# Altium footprint library SpaceBee.PcbLib: 36 footprints (part 1 of 3)
Each footprint in its own frame and in the unit in brackets; x right, y up, seen from the top. Pads: shape width x height; smd on the part's side, far side on the other; paste and mask are expansions set on the pad; w line width, h text height; cw(c..) or ccw(c..) is an arc to the next point about the centre after c.
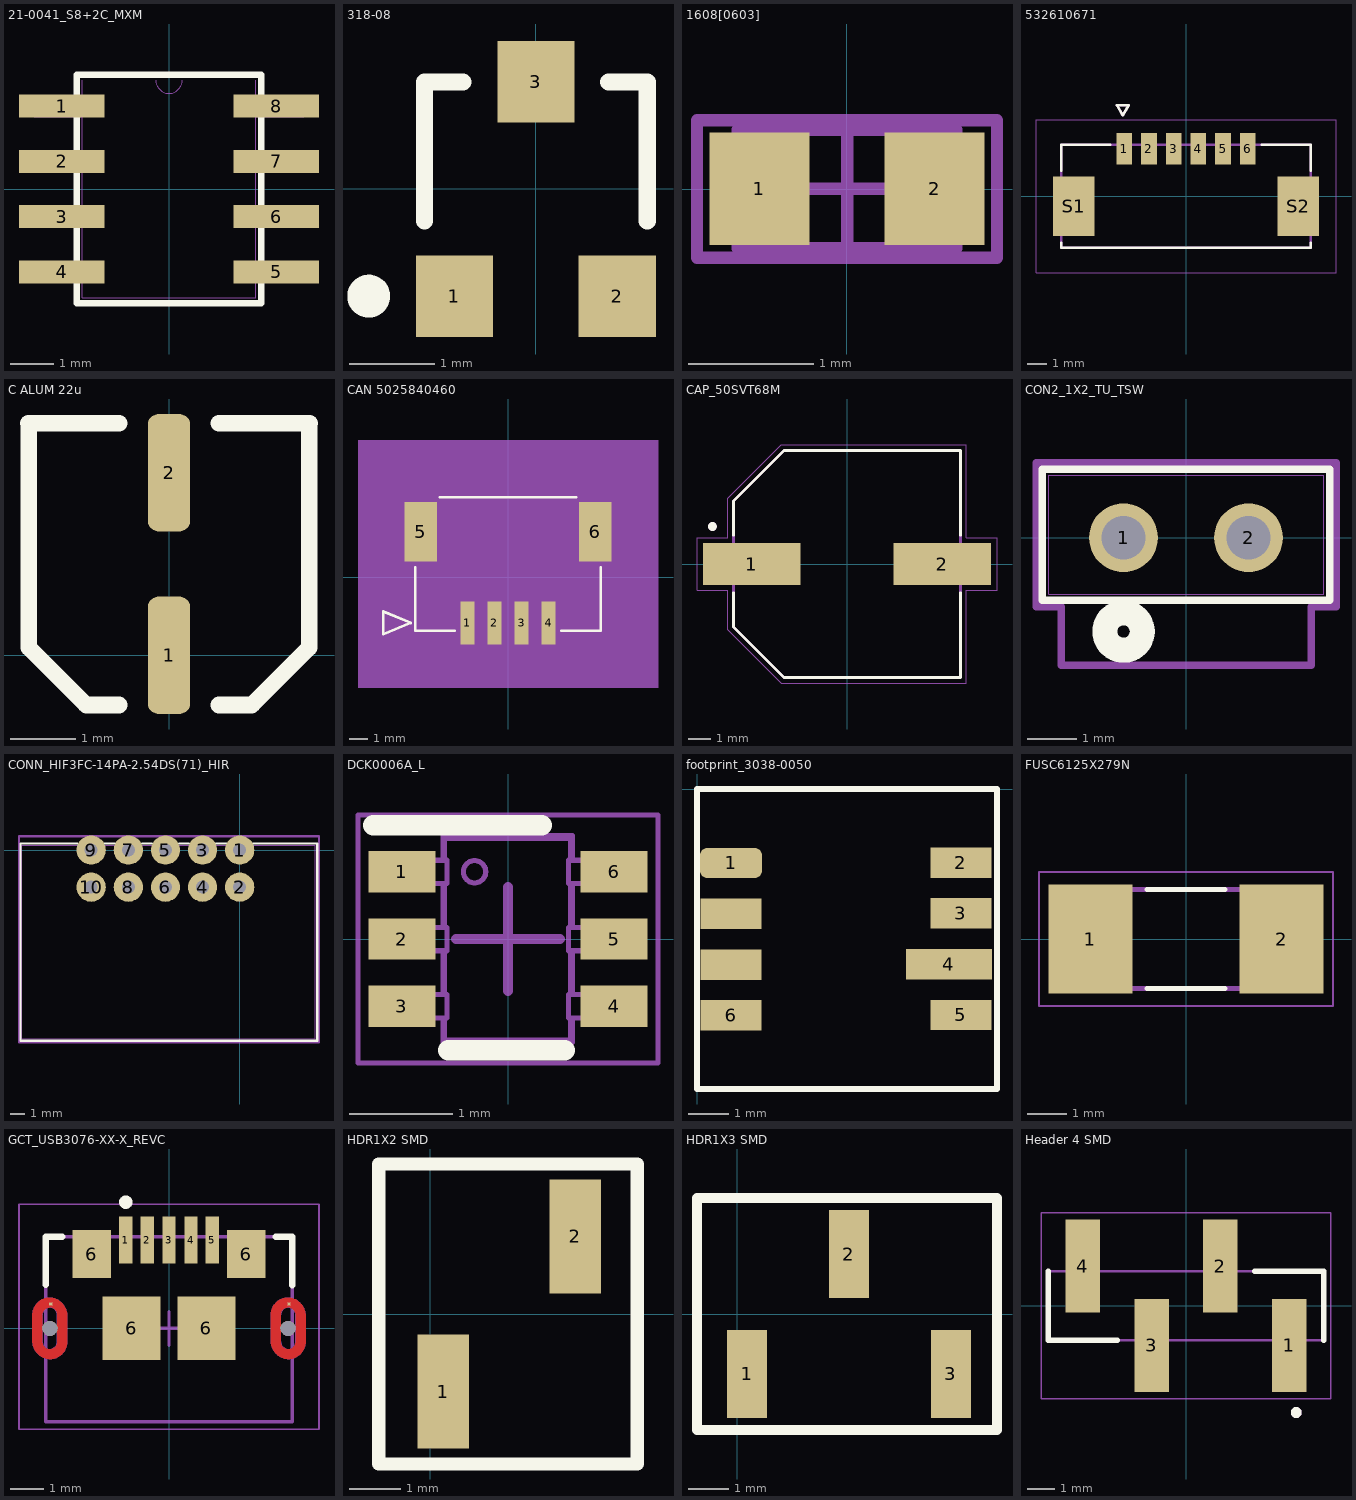
[diagram p0: the footprints below, top view; thin cyan lines are the x and y axes]

## 21-0041_S8+2C_MXM [mm]
pads (8):
  rect 1.97x0.533 smd paste+0 mask+0: 1(-2.464,1.905) 2(-2.464,0.635) 3(-2.464,-0.635) 4(-2.464,-1.905) 5(2.464,-1.905) 6(2.464,-0.635) 7(2.464,0.635) 8(2.464,1.905)
Top Overlay:
  lines w0.152: -2.121,-2.629 2.121,-2.629 2.121,2.629 -2.121,2.629 -2.121,-2.629
Mechanical 13:
  lines w0: -0.305,2.502 ccw(c0,2.502) 0.305,2.502
  lines w0.025: -1.994,2.502 -1.994,-2.502 1.994,-2.502 1.994,2.502 ; -3.099,-2.146 -1.994,-2.146 -1.994,-1.664 -3.099,-1.664 -3.099,-2.146 ; -3.099,-0.876 -1.994,-0.876 -1.994,-0.394 -3.099,-0.394 -3.099,-0.876 ; -3.099,0.394 -1.994,0.394 -1.994,0.876 -3.099,0.876 -3.099,0.394 ; -3.099,1.664 -1.994,1.664 -1.994,2.146 -3.099,2.146 -3.099,1.664 ; 1.994,-2.146 3.099,-2.146 3.099,-1.664 1.994,-1.664 1.994,-2.146 ; 1.994,-0.876 3.099,-0.876 3.099,-0.394 1.994,-0.394 1.994,-0.876 ; 1.994,0.394 3.099,0.394 3.099,0.876 1.994,0.876 1.994,0.394 ; 1.994,1.664 3.099,1.664 3.099,2.146 1.994,2.146 1.994,1.664
3D body "21-0041_S8+2C_MXM.step": height 1.76, standoff 0, extent -3.099,-2.502 3.099,2.502
3D body: height 0.25, standoff 0, extent 0,0 0.254,0.254

## 318-08 [mm] "SOT-23; 3 Leads; Body 3.0 x 2.6 mm, inc. leads (LxW max)"
height 1.11
pads (3):
  rect 0.9x0.95 smd: 1(-0.95,-1.25) 2(0.95,-1.25) 3(0,1.25)
Top Overlay:
  circle w0.25: c-1.95,-1.25 r0.125
  lines w0.2: -1.3,-0.375 -1.3,1.25 -0.85,1.25 ; 0.85,1.25 1.3,1.25 1.3,-0.375
3D body "User Library-SOT23-9.STEP": height 1.1, standoff 0, extent -1.428,-1.121 1.472,1.279

## 1608[0603] [mm]
pads (2):
  rect 0.8x0.9 smd: 1(-0.7,0) 2(0.7,0)
Mechanical 13:
  lines w0.1: -0.875,-0.475 -0.875,0.475 0.875,0.475 0.875,-0.475 -0.875,-0.475
Mechanical 15:
  lines w0.1: -0.475,0 0.475,0 ; 0,-0.475 0,0.475 ; -1.2,-0.55 -1.2,0.55 1.2,0.55 1.2,-0.55 -1.2,-0.55
3D body: height 1.3, standoff 0, extent -0.875,-0.475 0.875,0.475

## 532610671 [mm]
pads (8):
  rect 0.8x1.6 smd mask+0: 1(-3.125,2.4) 2(-1.875,2.4) 3(-0.625,2.4) 4(0.625,2.4) 5(1.875,2.4) 6(3.125,2.4)
  rect 2.1x3 smd mask+0: S1(-5.675,-0.5) S2(5.675,-0.5)
Top Overlay:
  lines w0.127: -6.325,-2.35 -6.325,-2.6 6.325,-2.6 6.325,-2.35 ; -6.325,1.3 -6.325,2.6 -3.845,2.6 ; 3.845,2.6 6.325,2.6 6.325,1.3 ; -3.5,4.605 -3.2,4.105 -2.9,4.605 -3.5,4.605
Top Solder:
  region: 3.601,1.524 2.649,1.524 2.649,3.276 3.601,3.276
  region: 2.351,1.524 1.399,1.524 1.399,3.276 2.351,3.276
  region: 1.101,1.524 0.149,1.524 0.149,3.276 1.101,3.276
  region: -0.149,1.524 -1.101,1.524 -1.101,3.276 -0.149,3.276
  region: -1.399,1.524 -2.351,1.524 -2.351,3.276 -1.399,3.276
  region: -4.549,-2.076 -6.801,-2.076 -6.801,1.076 -4.549,1.076
  region: 6.801,-2.076 4.549,-2.076 4.549,1.076 6.801,1.076
  region: -2.649,1.524 -3.601,1.524 -3.601,3.276 -2.649,3.276
Mechanical 13:
  lines w0.127: -6.325,-2.6 -6.325,2.6 6.325,2.6 6.325,-2.6 -6.325,-2.6 ; -3.5,4.605 -3.2,4.105 -2.9,4.605 -3.5,4.605
Mechanical 15:
  lines w0.05: -7.595,-3.87 -7.595,3.87 7.595,3.87 7.595,-3.87 -7.595,-3.87
3D body "step_temp.STEP": height 3.38, standoff -0.02, extent -6.325,-2.626 6.325,2.574

## C ALUM 22u [mm] "C22uF aluminum electrolitic 16V boiture B"
pads (2):
  rrect50% 0.65x1.8 smd: 1(0,0) 2(0,2.8)
Top Overlay:
  lines w0.254: -2.159,3.556 -0.762,3.556 ; -2.15,3.55 -2.15,0.118 -1.282,-0.75 ; -1.27,-0.762 -0.762,-0.762 ; 0.762,-0.762 1.27,-0.762 ; 0.762,3.556 2.159,3.556 ; 1.282,-0.75 2.15,0.118 2.15,3.55
3D body "User Library-CEL4D43S54H.STEP": height 5.4, standoff 0, extent -2.15,-0.909 2.15,3.691

## CAN 5025840460 [mm]
pads (6):
  rect 0.8x2.4 smd paste+0 mask+0.076: 1(-2.25,-2.525) 2(-0.75,-2.525) 3(0.75,-2.525) 4(2.25,-2.525)
  rect 1.8x3.3 smd paste+0 mask+0.076: 5(-4.85,2.525) 6(4.85,2.525)
Top Overlay:
  lines w0.152: -5.15,0.555 -5.15,-2.955 -2.97,-2.955 ; -3.778,4.445 3.778,4.445 ; 2.97,-2.955 5.15,-2.955 5.15,0.555 ; -6.928,-3.16 -6.928,-1.89 -5.404,-2.525 -6.928,-3.16
Mechanical 5:
  region: -8.325,7.62 8.325,7.62 8.325,-6.13 -8.325,-6.13
Mechanical 13:
  lines w0.127: -6.928,-3.16 -6.928,-1.89 -5.404,-2.525 -6.928,-3.16 ; -5.15,-2.955 5.15,-2.955 5.15,4.445 -5.15,4.445 -5.15,-2.955
Mechanical 15:
  region: 6.42,5.715 -6.42,5.715 -6.42,-4.225 6.42,-4.225
  lines w0.127: -6.42,-4.225 -6.42,5.715 6.42,5.715 6.42,-4.225 -6.42,-4.225
3D body: height 0.25, standoff 0, extent -2.25,-2.525 -1.996,-2.271
3D body "5025840460.stp": height 7.3, standoff 0, extent -5.114,-3.134 5.186,4.496

## CAP_50SVT68M [mm]
pads (2):
  rect 4.4x1.9 smd: 1(-4.318,0) 2(4.318,0)
Top Overlay:
  circle w0.2: c-6.1,1.7 r0.1
  lines w0.127: -5.15,-1.3 -5.15,-2.85 -2.85,-5.15 5.15,-5.15 5.15,-1.3 ; -5.15,1.3 -5.15,2.85 -2.85,5.15 5.15,5.15 5.15,1.3
Mechanical 13:
  circle w0.2: c-6.1,1.7 r0.1
  lines w0.127: -5.15,-2.85 -5.15,2.85 -2.85,5.15 5.15,5.15 5.15,-5.15 -2.85,-5.15 -5.15,-2.85
Mechanical 15:
  lines w0.05: -6.8,-1.2 -6.8,1.2 -5.4,1.2 -5.4,2.975 -2.975,5.4 5.4,5.4 5.4,1.2 6.8,1.2 6.8,-1.2 5.4,-1.2 5.4,-5.4 -2.975,-5.4 -5.4,-2.975 -5.4,-1.2 -6.8,-1.2
3D body "50SVT68M.STEP": height 12.57, standoff -0.03, extent -5.373,-5.023 5.627,5.277

## CON2_1X2_TU_TSW [mil]
pads (2):
  round 55 hole 35 mask+0: 1(-50,0) 2(50,0)
Top Overlay:
  circle w20: c-50,-75 r15
  lines w6: -115,-50 -115,55 115,55 115,-50 -115,-50
Bottom Overlay:
  circle w20: c-50,-75 r15
Mechanical 13:
  circle w0: c-50,0 r10
  lines w1: -110,-45 -110,50 110,50 110,-45 -110,-45
Mechanical 15:
  lines w6: -120,-55 -100,-55 -100,-102 100,-102 100,-55 120,-55 120,60 100,60 -100,60 -120,60 -120,-55
3D body "CON2_1X2_TU_TSW.step": height 500, standoff 0, extent -100,-50 100,50

## CONN_HIF3FC-14PA-2.54DS(71)_HIR [mm]
pads (10):
  round 2 hole 0.889 mask+0: 1(0,0) 2(0,-2.54) 3(-2.54,0) 4(-2.54,-2.54) 5(-5.08,0) 6(-5.08,-2.54) 7(-7.62,0) 8(-7.62,-2.54) 9(-10.16,0) 10(-10.16,-2.54)
Top Overlay:
  lines w0.152: -11.1,0.447 -15,0.447 -15,-13.04 5.2,-13.04 ; -9.231,0.447 -8.549,0.447 ; -6.691,0.447 -6.009,0.447 ; -4.151,0.447 -3.469,0.447 ; -1.611,0.447 -0.929,0.447 ; 0.929,0.447 5.296,0.447 5.296,-13.04
Mechanical 13:
  lines w0.025: -14.9,-12.913 -14.9,0.32 5.169,0.32 5.169,-12.913 -14.9,-12.913
Mechanical 15:
  lines w0.152: -15.1,-13.167 5.423,-13.167 5.423,0.953 -15.1,0.953 -15.1,-13.167
3D body "HIF3FC-10PA-2.54DS.stp": height 8.75, standoff -3.05, extent -15.2,-12.7 5,0.27

## DCK0006A_L [mm]
pads (6):
  rect 0.65x0.4 smd paste+0 mask+0.051: 1(-1.025,0.65) 2(-1.025,0) 3(-1.025,-0.65) 4(1.025,-0.65) 5(1.025,0) 6(1.025,0.65)
Top Overlay:
  lines w0.2: -1.3,1.1 0.325,1.1 ; -0.575,-1.075 0.55,-1.075
Mechanical 13:
  lines w0.05: -0.613,-0.763 -0.613,-0.976 0.607,-0.976 0.607,-0.763 ; -0.613,-0.538 -0.613,-0.113 ; -0.613,0.112 -0.613,0.537 ; -0.613,0.762 -0.613,0.974 0.607,0.974 0.607,0.762 ; 0.607,-0.538 0.607,-0.113 ; 0.607,0.112 0.607,0.537 ; -0.628,-0.763 -0.628,-1.001 0.622,-1.001 0.622,-0.763 ; -0.628,-0.763 -0.853,-0.763 -0.865,-0.763 -0.959,-0.763 -1.143,-0.763 -1.143,-0.538 -0.959,-0.538 -0.865,-0.538 -0.853,-0.538 -0.628,-0.538 ; -0.628,-0.763 -0.591,-0.763 -0.591,-0.538 -0.628,-0.538 ; -0.628,-0.538 -0.628,-0.113 ; -0.628,-0.113 -0.853,-0.113 -0.865,-0.113 -0.959,-0.113 -1.143,-0.113 -1.143,0.112 -0.959,0.112 -0.865,0.112 -0.853,0.112 -0.628,0.112 ; -0.628,-0.113 -0.591,-0.113 -0.591,0.112 -0.628,0.112 ; -0.628,0.112 -0.628,0.537 ; -0.628,0.537 -0.853,0.537 -0.865,0.537 -0.959,0.537 -1.143,0.537 -1.143,0.762 -0.959,0.762 -0.865,0.762 -0.853,0.762 -0.628,0.762 ; -0.628,0.537 -0.591,0.537 -0.591,0.762 -0.628,0.762 ; -0.628,0.762 -0.628,0.999 0.622,0.999 0.622,0.762 ; 0.622,-0.763 0.847,-0.763 0.859,-0.763 0.953,-0.763 1.137,-0.763 1.137,-0.538 0.953,-0.538 0.859,-0.538 0.847,-0.538 0.622,-0.538 ; 0.622,-0.763 0.585,-0.763 0.585,-0.538 0.622,-0.538 ; 0.622,-0.538 0.622,-0.113 ; 0.622,-0.113 0.585,-0.113 0.585,0.112 0.622,0.112 ; 0.622,-0.113 0.847,-0.113 0.859,-0.113 0.953,-0.113 1.137,-0.113 1.137,0.112 0.953,0.112 0.859,0.112 0.847,0.112 0.622,0.112 ; 0.622,0.112 0.622,0.537 ; 0.622,0.537 0.847,0.537 0.859,0.537 0.953,0.537 1.137,0.537 1.137,0.762 0.953,0.762 0.859,0.762 0.847,0.762 0.622,0.762 ; 0.622,0.537 0.585,0.537 0.585,0.762 0.622,0.762 ; -0.432,0.65 cw(c-0.323,0.65) -0.215,0.65 cw(c-0.323,0.65) -0.432,0.65
Mechanical 15:
  lines w0.05: -1.45,-1.2 1.45,-1.2 1.45,1.2 -1.45,1.2 -1.45,-1.2
  lines w0.1: -0.5,0 0.5,0 ; 0,-0.5 0,0.5
3D body: height 1.1, standoff 0, extent -0.635,-1.016 0.635,1.016

## footprint_3038-0050 [mm]
pads (8):
  rrect50% 1.56x0.76 smd: 1(0.85,-1.85)
  rect 1.52x0.76 smd: 2(6.6,-1.84) 3(6.6,-3.11) 5(6.6,-5.65) 6(0.85,-5.66) ""(0.85,-4.39) ""(0.85,-3.12)
  rect 2.16x0.76 smd: 4(6.3,-4.38)
Top Overlay:
  lines w0.15: 0,-7.5 7.5,-7.5 7.5,0 0,0 0,-7.5
3D body "c-3038-0050-03-e-3d.stp": height 3.3, standoff 0.12, extent 0.004,-7.497 7.497,-0.004

## FUSC6125X279N [mm]
pads (2):
  rect 2.15x2.8 smd: 1(-2.455,0) 2(2.455,0)
Top Overlay:
  lines w0.127: -1,-1.27 1,-1.27 ; -1,1.27 1,1.27
Mechanical 13:
  lines w0.127: -3.05,-1.27 3.05,-1.27 3.05,1.27 -3.05,1.27 -3.05,-1.27
Mechanical 15:
  lines w0.05: -3.78,-1.72 -3.78,1.72 3.78,1.72 3.78,-1.72 -3.78,-1.72
3D body "step_temp.STEP": height 2.79, standoff 0, extent -3.05,-1.27 3.05,1.27

## GCT_USB3076-XX-X_REVC [mm]
pads (13):
  rect 0.4x1.4 smd: 1(-1.3,2.65) 2(-0.65,2.65) 3(0,2.65) 4(0.66,2.65) 5(1.3,2.65)
  rect 0.1x0.1 smd paste-1 mask+0: 6(-3.549,0.73) 7(3.601,0.73)
  rect 1.15x1.45 smd: 6(-2.32,2.23) 6(2.32,2.23)
  rect 1.75x1.9 smd: 6(-1.125,0) 6(1.125,0)
  round 0.45 hole 0.45 unplated: ""(-3.575,0) ""(3.575,0)
Top Layer:
  region: -3.542,0.923 -3.514,0.919 -3.486,0.914 -3.458,0.907 -3.43,0.899 -3.403,0.889 -3.376,0.878 -3.35,0.866 -3.325,0.852 -3.3,0.837 -3.276,0.82 -3.254,0.803 -3.232,0.784 -3.211,0.764 -3.191,0.743 -3.172,0.721 -3.155,0.699 -3.138,0.675 -3.123,0.65 -3.109,0.625 -3.097,0.599 -3.086,0.572 -3.076,0.545 -3.068,0.517 -3.061,0.489 -3.056,0.461 -3.052,0.433 -3.05,0.404 -3.049,0.375 -3.05,0.35 -3.05,0 -3.35,0 -3.35,0.4 -3.35,0.412 -3.351,0.424 -3.353,0.435 -3.355,0.447 -3.358,0.458 -3.361,0.47 -3.365,0.481 -3.369,0.492 -3.375,0.502 -3.38,0.512 -3.386,0.523 -3.393,0.532 -3.4,0.542 -3.408,0.551 -3.416,0.559 -3.424,0.567 -3.433,0.575 -3.443,0.582 -3.452,0.589 -3.463,0.595 -3.473,0.6 -3.483,0.606 -3.494,0.61 -3.505,0.614 -3.517,0.617 -3.528,0.62 -3.54,0.622 -3.551,0.624 -3.563,0.625 -3.587,0.625 -3.599,0.624 -3.61,0.622 -3.622,0.62 -3.633,0.617 -3.645,0.614 -3.656,0.61 -3.667,0.606 -3.677,0.6 -3.688,0.595 -3.698,0.589 -3.707,0.582 -3.717,0.575 -3.726,0.567 -3.734,0.559 -3.742,0.551 -3.75,0.542 -3.757,0.532 -3.764,0.523 -3.77,0.513 -3.775,0.502 -3.781,0.492 -3.785,0.481 -3.789,0.47 -3.792,0.458 -3.795,0.447 -3.797,0.435 -3.799,0.424 -3.8,0.412 -3.8,0.4 -3.8,0 -4.1,0 -4.1,0.4 -4.099,0.427 -4.097,0.455 -4.094,0.482 -4.089,0.509 -4.082,0.536 -4.074,0.562 -4.065,0.588 -4.055,0.614 -4.043,0.638 -4.03,0.663 -4.015,0.686 -4,0.709 -3.983,0.73 -3.965,0.751 -3.946,0.771 -3.926,0.79 -3.905,0.808 -3.884,0.825 -3.861,0.84 -3.837,0.855 -3.813,0.868 -3.789,0.88 -3.763,0.89 -3.737,0.899 -3.711,0.907 -3.684,0.914 -3.657,0.919 -3.63,0.922 -3.602,0.924 -3.575,0.925
  region: -3.05,-0.4 -3.051,-0.427 -3.053,-0.455 -3.056,-0.482 -3.061,-0.509 -3.068,-0.536 -3.076,-0.562 -3.085,-0.588 -3.095,-0.614 -3.107,-0.638 -3.12,-0.662 -3.135,-0.686 -3.15,-0.709 -3.167,-0.73 -3.185,-0.751 -3.204,-0.771 -3.224,-0.79 -3.245,-0.808 -3.266,-0.825 -3.289,-0.84 -3.313,-0.855 -3.337,-0.868 -3.361,-0.88 -3.387,-0.89 -3.413,-0.899 -3.439,-0.907 -3.466,-0.914 -3.493,-0.919 -3.52,-0.922 -3.548,-0.924 -3.575,-0.925 -3.608,-0.923 -3.636,-0.919 -3.664,-0.914 -3.692,-0.907 -3.72,-0.899 -3.747,-0.889 -3.774,-0.878 -3.8,-0.866 -3.825,-0.852 -3.85,-0.837 -3.874,-0.82 -3.896,-0.803 -3.918,-0.784 -3.939,-0.764 -3.959,-0.743 -3.978,-0.721 -3.995,-0.699 -4.012,-0.675 -4.027,-0.65 -4.041,-0.625 -4.053,-0.599 -4.064,-0.572 -4.074,-0.545 -4.082,-0.517 -4.089,-0.489 -4.094,-0.461 -4.098,-0.433 -4.1,-0.404 -4.101,-0.375 -4.1,-0.35 -4.1,0 -3.8,0 -3.8,-0.4 -3.8,-0.412 -3.799,-0.424 -3.797,-0.435 -3.795,-0.447 -3.792,-0.458 -3.789,-0.47 -3.785,-0.481 -3.781,-0.492 -3.775,-0.502 -3.77,-0.513 -3.764,-0.523 -3.757,-0.532 -3.75,-0.542 -3.742,-0.551 -3.734,-0.559 -3.726,-0.567 -3.717,-0.575 -3.707,-0.582 -3.698,-0.589 -3.688,-0.595 -3.677,-0.6 -3.667,-0.606 -3.656,-0.61 -3.645,-0.614 -3.633,-0.617 -3.622,-0.62 -3.61,-0.622 -3.599,-0.624 -3.587,-0.625 -3.563,-0.625 -3.551,-0.624 -3.54,-0.622 -3.528,-0.62 -3.517,-0.617 -3.505,-0.614 -3.494,-0.61 -3.483,-0.606 -3.473,-0.6 -3.463,-0.595 -3.452,-0.589 -3.443,-0.582 -3.433,-0.575 -3.424,-0.567 -3.416,-0.559 -3.408,-0.551 -3.4,-0.542 -3.393,-0.532 -3.386,-0.523 -3.38,-0.512 -3.375,-0.502 -3.369,-0.492 -3.365,-0.481 -3.361,-0.47 -3.358,-0.458 -3.355,-0.447 -3.353,-0.435 -3.351,-0.424 -3.35,-0.412 -3.35,-0.4 -3.35,0 -3.05,0
  region: 3.608,0.923 3.636,0.919 3.664,0.914 3.692,0.907 3.72,0.899 3.747,0.889 3.774,0.878 3.8,0.866 3.825,0.852 3.85,0.837 3.874,0.82 3.896,0.803 3.918,0.784 3.939,0.764 3.959,0.743 3.978,0.721 3.995,0.699 4.012,0.675 4.027,0.65 4.041,0.625 4.053,0.599 4.064,0.572 4.074,0.545 4.082,0.517 4.089,0.489 4.094,0.461 4.098,0.433 4.1,0.404 4.101,0.375 4.1,0.35 4.1,0 3.8,0 3.8,0.4 3.8,0.412 3.799,0.424 3.797,0.435 3.795,0.447 3.792,0.458 3.789,0.47 3.785,0.481 3.781,0.492 3.775,0.502 3.77,0.513 3.764,0.523 3.757,0.532 3.75,0.542 3.742,0.551 3.734,0.559 3.726,0.567 3.717,0.575 3.707,0.582 3.698,0.589 3.688,0.595 3.677,0.6 3.667,0.606 3.656,0.61 3.645,0.614 3.633,0.617 3.622,0.62 3.61,0.622 3.599,0.624 3.587,0.625 3.563,0.625 3.551,0.624 3.54,0.622 3.528,0.62 3.517,0.617 3.505,0.614 3.494,0.61 3.483,0.606 3.473,0.6 3.463,0.595 3.452,0.589 3.443,0.582 3.433,0.575 3.424,0.567 3.416,0.559 3.408,0.551 3.4,0.542 3.393,0.532 3.386,0.523 3.38,0.512 3.375,0.502 3.369,0.492 3.365,0.481 3.361,0.47 3.358,0.458 3.355,0.447 3.353,0.435 3.351,0.424 3.35,0.412 3.35,0.4 3.35,0 3.05,0 3.05,0.4 3.051,0.427 3.053,0.455 3.056,0.482 3.061,0.509 3.068,0.536 3.076,0.562 3.085,0.588 3.095,0.614 3.107,0.638 3.12,0.662 3.135,0.686 3.15,0.709 3.167,0.73 3.185,0.751 3.204,0.771 3.224,0.79 3.245,0.808 3.266,0.825 3.289,0.84 3.313,0.855 3.337,0.868 3.361,0.88 3.387,0.89 3.413,0.899 3.439,0.907 3.466,0.914 3.493,0.919 3.52,0.922 3.548,0.924 3.575,0.925
  region: 4.1,-0.4 4.099,-0.427 4.097,-0.455 4.094,-0.482 4.089,-0.509 4.082,-0.536 4.074,-0.562 4.065,-0.588 4.055,-0.614 4.043,-0.638 4.03,-0.663 4.015,-0.686 4,-0.709 3.983,-0.73 3.965,-0.751 3.946,-0.771 3.926,-0.79 3.905,-0.808 3.884,-0.825 3.861,-0.84 3.837,-0.855 3.813,-0.868 3.789,-0.88 3.763,-0.89 3.737,-0.899 3.711,-0.907 3.684,-0.914 3.657,-0.919 3.63,-0.922 3.602,-0.924 3.575,-0.925 3.542,-0.923 3.514,-0.919 3.486,-0.914 3.458,-0.907 3.43,-0.899 3.403,-0.889 3.376,-0.878 3.35,-0.866 3.325,-0.852 3.3,-0.837 3.276,-0.82 3.254,-0.803 3.232,-0.784 3.211,-0.764 3.191,-0.743 3.172,-0.721 3.155,-0.699 3.138,-0.675 3.123,-0.65 3.109,-0.625 3.097,-0.599 3.086,-0.572 3.076,-0.545 3.068,-0.517 3.061,-0.489 3.056,-0.461 3.052,-0.433 3.05,-0.404 3.049,-0.375 3.05,-0.35 3.05,0 3.35,0 3.35,-0.4 3.35,-0.412 3.351,-0.424 3.353,-0.435 3.355,-0.447 3.358,-0.458 3.361,-0.47 3.365,-0.481 3.369,-0.492 3.375,-0.502 3.38,-0.512 3.386,-0.523 3.393,-0.532 3.4,-0.542 3.408,-0.551 3.416,-0.559 3.424,-0.567 3.433,-0.575 3.443,-0.582 3.452,-0.589 3.463,-0.595 3.473,-0.6 3.483,-0.606 3.494,-0.61 3.505,-0.614 3.517,-0.617 3.528,-0.62 3.54,-0.622 3.551,-0.624 3.563,-0.625 3.587,-0.625 3.599,-0.624 3.61,-0.622 3.622,-0.62 3.633,-0.617 3.645,-0.614 3.656,-0.61 3.667,-0.606 3.677,-0.6 3.688,-0.595 3.698,-0.589 3.707,-0.582 3.717,-0.575 3.726,-0.567 3.734,-0.559 3.742,-0.551 3.75,-0.542 3.757,-0.532 3.764,-0.523 3.77,-0.513 3.775,-0.502 3.781,-0.492 3.785,-0.481 3.789,-0.47 3.792,-0.458 3.795,-0.447 3.797,-0.435 3.799,-0.424 3.8,-0.412 3.8,-0.4 3.8,0 4.1,0
Bottom Layer:
  region: -3.542,0.923 -3.514,0.919 -3.486,0.914 -3.458,0.907 -3.43,0.899 -3.403,0.889 -3.376,0.878 -3.35,0.866 -3.325,0.852 -3.3,0.837 -3.276,0.82 -3.254,0.803 -3.232,0.784 -3.211,0.764 -3.191,0.743 -3.172,0.721 -3.155,0.699 -3.138,0.675 -3.123,0.65 -3.109,0.625 -3.097,0.599 -3.086,0.572 -3.076,0.545 -3.068,0.517 -3.061,0.489 -3.056,0.461 -3.052,0.433 -3.05,0.404 -3.049,0.375 -3.05,0.35 -3.05,0 -3.35,0 -3.35,0.4 -3.35,0.412 -3.351,0.424 -3.353,0.435 -3.355,0.447 -3.358,0.458 -3.361,0.47 -3.365,0.481 -3.369,0.492 -3.375,0.502 -3.38,0.512 -3.386,0.523 -3.393,0.532 -3.4,0.542 -3.408,0.551 -3.416,0.559 -3.424,0.567 -3.433,0.575 -3.443,0.582 -3.452,0.589 -3.463,0.595 -3.473,0.6 -3.483,0.606 -3.494,0.61 -3.505,0.614 -3.517,0.617 -3.528,0.62 -3.54,0.622 -3.551,0.624 -3.563,0.625 -3.587,0.625 -3.599,0.624 -3.61,0.622 -3.622,0.62 -3.633,0.617 -3.645,0.614 -3.656,0.61 -3.667,0.606 -3.677,0.6 -3.688,0.595 -3.698,0.589 -3.707,0.582 -3.717,0.575 -3.726,0.567 -3.734,0.559 -3.742,0.551 -3.75,0.542 -3.757,0.532 -3.764,0.523 -3.77,0.513 -3.775,0.502 -3.781,0.492 -3.785,0.481 -3.789,0.47 -3.792,0.458 -3.795,0.447 -3.797,0.435 -3.799,0.424 -3.8,0.412 -3.8,0.4 -3.8,0 -4.1,0 -4.1,0.4 -4.099,0.427 -4.097,0.455 -4.094,0.482 -4.089,0.509 -4.082,0.536 -4.074,0.562 -4.065,0.588 -4.055,0.614 -4.043,0.638 -4.03,0.663 -4.015,0.686 -4,0.709 -3.983,0.73 -3.965,0.751 -3.946,0.771 -3.926,0.79 -3.905,0.808 -3.884,0.825 -3.861,0.84 -3.837,0.855 -3.813,0.868 -3.789,0.88 -3.763,0.89 -3.737,0.899 -3.711,0.907 -3.684,0.914 -3.657,0.919 -3.63,0.922 -3.602,0.924 -3.575,0.925
  region: -3.05,-0.4 -3.051,-0.427 -3.053,-0.455 -3.056,-0.482 -3.061,-0.509 -3.068,-0.536 -3.076,-0.562 -3.085,-0.588 -3.095,-0.614 -3.107,-0.638 -3.12,-0.662 -3.135,-0.686 -3.15,-0.709 -3.167,-0.73 -3.185,-0.751 -3.204,-0.771 -3.224,-0.79 -3.245,-0.808 -3.266,-0.825 -3.289,-0.84 -3.313,-0.855 -3.337,-0.868 -3.361,-0.88 -3.387,-0.89 -3.413,-0.899 -3.439,-0.907 -3.466,-0.914 -3.493,-0.919 -3.52,-0.922 -3.548,-0.924 -3.575,-0.925 -3.608,-0.923 -3.636,-0.919 -3.664,-0.914 -3.692,-0.907 -3.72,-0.899 -3.747,-0.889 -3.774,-0.878 -3.8,-0.866 -3.825,-0.852 -3.85,-0.837 -3.874,-0.82 -3.896,-0.803 -3.918,-0.784 -3.939,-0.764 -3.959,-0.743 -3.978,-0.721 -3.995,-0.699 -4.012,-0.675 -4.027,-0.65 -4.041,-0.625 -4.053,-0.599 -4.064,-0.572 -4.074,-0.545 -4.082,-0.517 -4.089,-0.489 -4.094,-0.461 -4.098,-0.433 -4.1,-0.404 -4.101,-0.375 -4.1,-0.35 -4.1,0 -3.8,0 -3.8,-0.4 -3.8,-0.412 -3.799,-0.424 -3.797,-0.435 -3.795,-0.447 -3.792,-0.458 -3.789,-0.47 -3.785,-0.481 -3.781,-0.492 -3.775,-0.502 -3.77,-0.513 -3.764,-0.523 -3.757,-0.532 -3.75,-0.542 -3.742,-0.551 -3.734,-0.559 -3.726,-0.567 -3.717,-0.575 -3.707,-0.582 -3.698,-0.589 -3.688,-0.595 -3.677,-0.6 -3.667,-0.606 -3.656,-0.61 -3.645,-0.614 -3.633,-0.617 -3.622,-0.62 -3.61,-0.622 -3.599,-0.624 -3.587,-0.625 -3.563,-0.625 -3.551,-0.624 -3.54,-0.622 -3.528,-0.62 -3.517,-0.617 -3.505,-0.614 -3.494,-0.61 -3.483,-0.606 -3.473,-0.6 -3.463,-0.595 -3.452,-0.589 -3.443,-0.582 -3.433,-0.575 -3.424,-0.567 -3.416,-0.559 -3.408,-0.551 -3.4,-0.542 -3.393,-0.532 -3.386,-0.523 -3.38,-0.512 -3.375,-0.502 -3.369,-0.492 -3.365,-0.481 -3.361,-0.47 -3.358,-0.458 -3.355,-0.447 -3.353,-0.435 -3.351,-0.424 -3.35,-0.412 -3.35,-0.4 -3.35,0 -3.05,0
  region: 3.608,0.923 3.636,0.919 3.664,0.914 3.692,0.907 3.72,0.899 3.747,0.889 3.774,0.878 3.8,0.866 3.825,0.852 3.85,0.837 3.874,0.82 3.896,0.803 3.918,0.784 3.939,0.764 3.959,0.743 3.978,0.721 3.995,0.699 4.012,0.675 4.027,0.65 4.041,0.625 4.053,0.599 4.064,0.572 4.074,0.545 4.082,0.517 4.089,0.489 4.094,0.461 4.098,0.433 4.1,0.404 4.101,0.375 4.1,0.35 4.1,0 3.8,0 3.8,0.4 3.8,0.412 3.799,0.424 3.797,0.435 3.795,0.447 3.792,0.458 3.789,0.47 3.785,0.481 3.781,0.492 3.775,0.502 3.77,0.513 3.764,0.523 3.757,0.532 3.75,0.542 3.742,0.551 3.734,0.559 3.726,0.567 3.717,0.575 3.707,0.582 3.698,0.589 3.688,0.595 3.677,0.6 3.667,0.606 3.656,0.61 3.645,0.614 3.633,0.617 3.622,0.62 3.61,0.622 3.599,0.624 3.587,0.625 3.563,0.625 3.551,0.624 3.54,0.622 3.528,0.62 3.517,0.617 3.505,0.614 3.494,0.61 3.483,0.606 3.473,0.6 3.463,0.595 3.452,0.589 3.443,0.582 3.433,0.575 3.424,0.567 3.416,0.559 3.408,0.551 3.4,0.542 3.393,0.532 3.386,0.523 3.38,0.512 3.375,0.502 3.369,0.492 3.365,0.481 3.361,0.47 3.358,0.458 3.355,0.447 3.353,0.435 3.351,0.424 3.35,0.412 3.35,0.4 3.35,0 3.05,0 3.05,0.4 3.051,0.427 3.053,0.455 3.056,0.482 3.061,0.509 3.068,0.536 3.076,0.562 3.085,0.588 3.095,0.614 3.107,0.638 3.12,0.662 3.135,0.686 3.15,0.709 3.167,0.73 3.185,0.751 3.204,0.771 3.224,0.79 3.245,0.808 3.266,0.825 3.289,0.84 3.313,0.855 3.337,0.868 3.361,0.88 3.387,0.89 3.413,0.899 3.439,0.907 3.466,0.914 3.493,0.919 3.52,0.922 3.548,0.924 3.575,0.925
  region: 4.1,-0.4 4.099,-0.427 4.097,-0.455 4.094,-0.482 4.089,-0.509 4.082,-0.536 4.074,-0.562 4.065,-0.588 4.055,-0.614 4.043,-0.638 4.03,-0.663 4.015,-0.686 4,-0.709 3.983,-0.73 3.965,-0.751 3.946,-0.771 3.926,-0.79 3.905,-0.808 3.884,-0.825 3.861,-0.84 3.837,-0.855 3.813,-0.868 3.789,-0.88 3.763,-0.89 3.737,-0.899 3.711,-0.907 3.684,-0.914 3.657,-0.919 3.63,-0.922 3.602,-0.924 3.575,-0.925 3.542,-0.923 3.514,-0.919 3.486,-0.914 3.458,-0.907 3.43,-0.899 3.403,-0.889 3.376,-0.878 3.35,-0.866 3.325,-0.852 3.3,-0.837 3.276,-0.82 3.254,-0.803 3.232,-0.784 3.211,-0.764 3.191,-0.743 3.172,-0.721 3.155,-0.699 3.138,-0.675 3.123,-0.65 3.109,-0.625 3.097,-0.599 3.086,-0.572 3.076,-0.545 3.068,-0.517 3.061,-0.489 3.056,-0.461 3.052,-0.433 3.05,-0.404 3.049,-0.375 3.05,-0.35 3.05,0 3.35,0 3.35,-0.4 3.35,-0.412 3.351,-0.424 3.353,-0.435 3.355,-0.447 3.358,-0.458 3.361,-0.47 3.365,-0.481 3.369,-0.492 3.375,-0.502 3.38,-0.512 3.386,-0.523 3.393,-0.532 3.4,-0.542 3.408,-0.551 3.416,-0.559 3.424,-0.567 3.433,-0.575 3.443,-0.582 3.452,-0.589 3.463,-0.595 3.473,-0.6 3.483,-0.606 3.494,-0.61 3.505,-0.614 3.517,-0.617 3.528,-0.62 3.54,-0.622 3.551,-0.624 3.563,-0.625 3.587,-0.625 3.599,-0.624 3.61,-0.622 3.622,-0.62 3.633,-0.617 3.645,-0.614 3.656,-0.61 3.667,-0.606 3.677,-0.6 3.688,-0.595 3.698,-0.589 3.707,-0.582 3.717,-0.575 3.726,-0.567 3.734,-0.559 3.742,-0.551 3.75,-0.542 3.757,-0.532 3.764,-0.523 3.77,-0.513 3.775,-0.502 3.781,-0.492 3.785,-0.481 3.789,-0.47 3.792,-0.458 3.795,-0.447 3.797,-0.435 3.799,-0.424 3.8,-0.412 3.8,-0.4 3.8,0 4.1,0
Top Overlay:
  circle w0.2: c-1.295,3.785 r0.102
  lines w0.2: -3.7,1.305 -3.7,2.75 -3.2,2.75 ; 3.2,2.75 3.7,2.75 3.7,1.295
Top Paste:
  drawing of 8 lines, arcs and shapes, not listed
Bottom Paste:
  drawing of 8 lines, arcs and shapes, not listed
Top Solder:
  region: -2.849,-1.151 -4.304,-1.151 -4.304,1.15 -2.849,1.15
  region: 4.301,-1.152 2.856,-1.152 2.856,1.15 4.301,1.15
Bottom Solder:
  region: -2.849,-1.152 -4.307,-1.152 -4.307,1.15 -2.849,1.15
  region: 4.301,-1.151 2.854,-1.151 2.854,1.15 4.301,1.15
Mechanical 1:
  lines w0: -3.35,0.402 ccw(c-3.574,0.402) -3.574,0.626 ccw(c-3.575,0.401) -3.8,0.401 -3.8,-0.4 ccw(c-3.575,-0.4) -3.575,-0.625 ccw(c-3.575,-0.4) -3.35,-0.4 -3.35,0.402 ; 3.8,0.402 ccw(c3.575,0.402) 3.575,0.626 ccw(c3.575,0.401) 3.35,0.401 3.35,-0.4 ccw(c3.575,-0.4) 3.575,-0.625 ccw(c3.575,-0.4) 3.8,-0.4 3.8,0.402
Mechanical 13:
  lines w0.1: -3.7,-2.8 3.7,-2.8 3.7,2.75 -3.7,2.75 -3.7,-2.8
Mechanical 15:
  lines w0.05: -4.5,-3.025 4.5,-3.025 4.5,3.725 -4.5,3.725 -4.5,-3.025
  lines w0.1: -0.508,0 0.508,0 ; 0,-0.508 0,0.508
3D body "USB3076-30-A--3DModel-STEP-56544.STEP": height 2.66, standoff -1, extent -3.7,-2.775 3.7,2.775

## HDR1X2 SMD [mm]
pads (2):
  rect 1x2.2 smd: 1(0.25,-1.5) 2(2.8,1.5)
Top Overlay:
  lines w0.254: -1,-2.9 4,-2.9 4,2.9 -1,2.9 -1,-2.9
3D body "pin_header_a-sl254-eg-g02mp1.stp": height 9.9, standoff 0.06, extent -1.04,-2.5 4.04,2.5

## HDR1X3 SMD [mm]
pads (3):
  rect 1x2.2 smd: 1(0.25,-1.5) 2(2.8,1.5) 3(5.35,-1.5)
Top Overlay:
  lines w0.254: -1,-2.9 6.5,-2.9 6.5,2.9 -1,2.9 -1,-2.9
3D body "pin_header_a-sl254-eg-g03mp1.stp": height 9.9, standoff 0.06, extent -1.01,-2.5 6.61,2.5

## Header 4 SMD [mm]
pads (4):
  rect 1.27x3.43 smd: 1(3.81,-1.46) 2(1.27,1.46) 3(-1.27,-1.46) 4(-3.81,1.46)
Top Overlay:
  circle w0.2: c4.06,-3.935 r0.1
  lines w0.2: -5.08,1.27 -5.08,-1.27 -2.54,-1.27 ; 2.54,1.27 5.08,1.27 5.08,-1.27
Mechanical 13:
  circle w0.2: c4.06,-3.935 r0.1
  lines w0.1: -5.08,-1.27 5.08,-1.27 5.08,1.27 -5.08,1.27 -5.08,-1.27
Mechanical 15:
  lines w0.05: -5.33,-3.425 5.33,-3.425 5.33,3.425 -5.33,3.425 -5.33,-3.425
3D body "TSM-104-01-F-SV.stp": height 9.68, standoff 0.03, extent -5.08,-2.642 5.08,2.642